# Altium footprint library SnapEDApcb.PcbLib: 1 footprints
Each footprint in its own frame and in the unit in brackets; x right, y up, seen from the top. Pads: shape width x height; smd on the part's side, far side on the other; paste and mask are expansions set on the pad; w line width, h text height; cw(c..) or ccw(c..) is an arc to the next point about the centre after c.
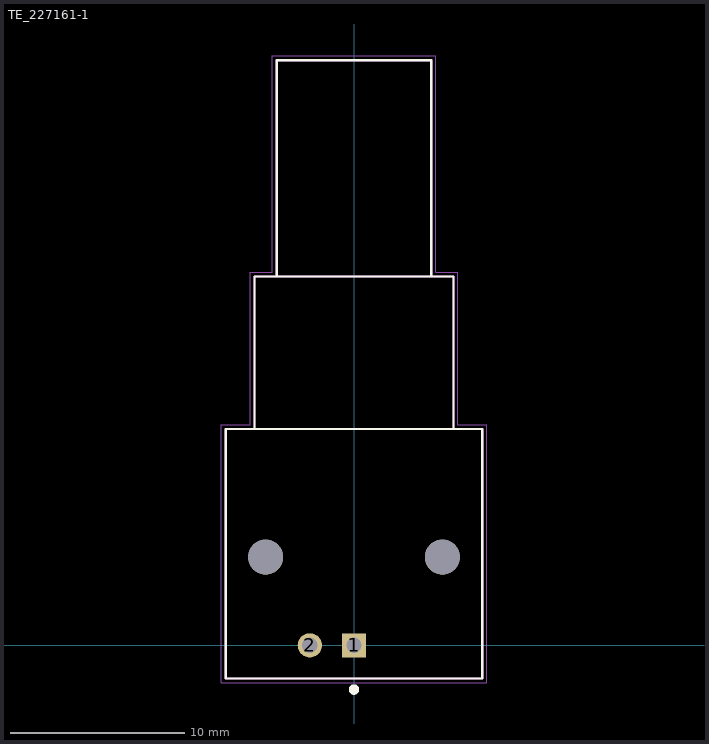
[diagram p0: the footprint, top view; thin cyan lines are the x and y axes]

## TE_227161-1 [mm]
pads (4):
  rect 1.398x1.398 hole 0.89: 1(0,0)
  round 1.398 hole 0.89: 2(-2.54,0)
  round 2.01 hole 2.01 unplated: ""(-5.08,5.08) ""(5.08,5.08)
Top Overlay:
  circle w0.3: c0,-2.54 r0.15
  lines w0.127: -5.715,12.45 -5.715,21.21 -4.445,21.21 ; 5.715,12.45 5.715,21.21 4.445,21.21 ; -4.445,21.21 4.445,21.21 ; -4.445,21.21 -4.445,33.66 4.445,33.66 4.445,21.21 ; -7.38,-1.9 -7.38,12.45 7.38,12.45 7.38,-1.9 -7.38,-1.9
Mechanical 13:
  circle w0.3: c0,0 r0.15
  lines w0.127: -5.715,12.45 -7.38,12.45 -7.38,-1.9 7.38,-1.9 7.38,12.45 5.715,12.45 ; -5.715,12.45 5.715,12.45 ; -5.715,12.45 -5.715,21.21 -4.445,21.21 ; -4.445,21.21 4.445,21.21 ; -4.445,21.21 -4.445,33.66 4.445,33.66 4.445,21.21 ; 4.445,21.21 5.715,21.21 5.715,12.45
  text "PCB EDGE" at -4.002,21.308 h1.27
Mechanical 15:
  lines w0.05: -7.63,-2.15 7.63,-2.15 7.63,12.7 5.965,12.7 5.965,21.46 4.695,21.46 4.695,33.91 -4.695,33.91 -4.695,21.46 -5.965,21.46 -5.965,12.7 -7.63,12.7 -7.63,-2.15